# EAGLE library part ACOUSTICLIB_SPM0408LE5H (library LIBRARY)
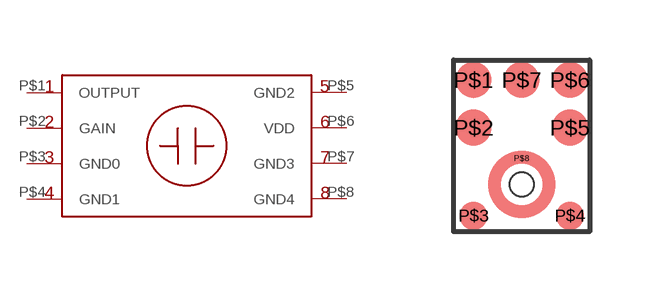
[diagram p7: symbol with the pads of ACOUSTICLIB_SPM0408LE5H-TB; footprint ACOUSTICLIB_SPM0408LE5H-TB]

Designator prefix U

## ACOUSTICLIB_SPM0408LE5H  [ACOUSTICLIB_SPM0408LE5H-TB]
P$1  OUTPUT  out
P$2  GAIN  in
P$3  GND0  pwr
P$4  GND1  pwr
P$5  GND2  pwr
P$6  VDD  pwr
P$7  GND3  pwr
P$8  GND4  pwr

## Footprint ACOUSTICLIB_SPM0408LE5H-TB (pad centres in mm)
smd 0.9 x 0.9: P$1 -1.2,1.7; P$2 -1.2,0.506; P$5 1.208,0.506; P$6 1.208,1.7; P$7 0.004,1.7
smd 0.7 x 0.7: P$3 -1.2,-1.706; P$4 1.208,-1.706
smd 0.406 x 0.203: P$8 0,-0.26
hole 0.6 at 0.004,-0.916